# EAGLE library part PUSH_LATCH_SW_9X9 (library dragCustom)
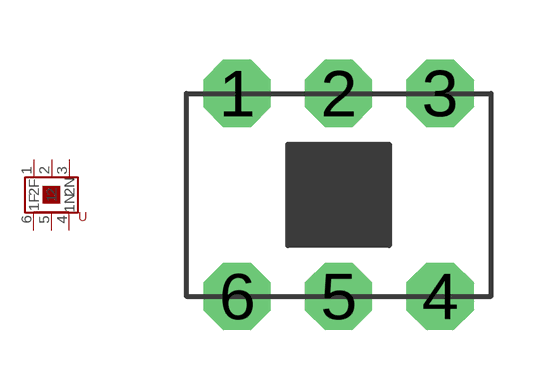
[diagram p0: symbol with the pads of PUSH_LATCH_SW_9X9; footprint PUSH_LATCH_SW_9X9]

Designator prefix -

## PUSH_LATCH_SW_9X9  [PUSH_LATCH_SW_9X9]
1  1F
2  1
3  1N
4  2N
5  2
6  2F

## Footprint PUSH_LATCH_SW_9X9 (pad centres in mm)
drill 1 pad 1.676 octagon: 1 -2.54,2.54; 2 0,2.54; 3 2.54,2.54; 4 2.54,-2.54; 5 0,-2.54; 6 -2.54,-2.54